# Altium integrated library Diodes.IntLib: 6 symbols
Pins are listed as number, name and electrical type; pins without a type are passive.

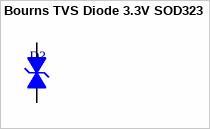
[diagram p0: symbol Bourns TVS Diode 3.3V SOD323]

## Bourns TVS Diode 3.3V SOD323
designator D?  (value not drawn)
TVS DIODE 3.3VWM 10.9VC SOD323; Supplier 1: Digi-Key; Supplier Part Number 1: CDSOD323-T03SCCT-ND
footprint TVS Diode SOD-323
pins: 1, 2


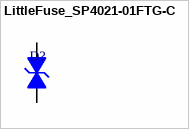
[diagram p1: symbol LittleFuse_SP4021-01FTG-C]

## LittleFuse_SP4021-01FTG-C
designator D?  (value not drawn)
TVS DIODE 5VWM 19.6VC BI SOD323; Supplier 1: Digi-Key; Supplier Part Number 1: F6273CT-ND
footprint TVS Diode SOD-323
pins: 1, 2


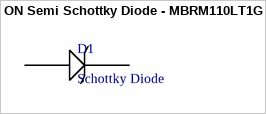
[diagram p2: symbol ON Semi Schottky Diode - MBRM110LT1G]

## ON Semi Schottky Diode - MBRM110LT1G
designator D1, comment Schottky Diode
footprint PCBComponent_1
pins: 1, 2


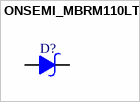
[diagram p3: symbol ONSEMI_MBRM110LT1G]

## ONSEMI_MBRM110LT1G
designator D?  (value not drawn)
DIODE SCHOTTKY 10V 1A; Supplier 1: Digi-Key; Supplier Part Number 1: MBRM110LT1GOSDKR-ND
footprint ON Semi Schottky Diode - MBRM110LT1G
pins: 1, 2


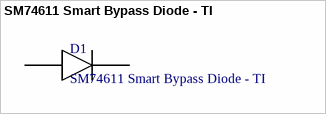
[diagram p4: symbol SM74611 Smart Bypass Diode - TI]

## SM74611 Smart Bypass Diode - TI
designator D1
footprint SM74611 Smart Bypass Diode - TI (Footprint not found)
pins: 1, 3, 4


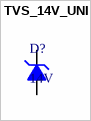
[diagram p5: symbol TVS_14V_UNI]

## TVS_14V_UNI
designator D?, comment 14V
TVS DIODE 14VWM 23.2VC SMF; Supplier 1: Digi-Key; Supplier Part Number 1: SMF14A-E3-08GICT-ND
footprint SODFL370X108-2N (SODFL, 2-Leads, Body 1.80x3.70mm, IPC Medium Density)
pins: 1 C, 2 A